# Altium schematic symbol library distribution amp.schlib: 4 symbols
Pins are listed as number, name and electrical type; pins without a type are passive.

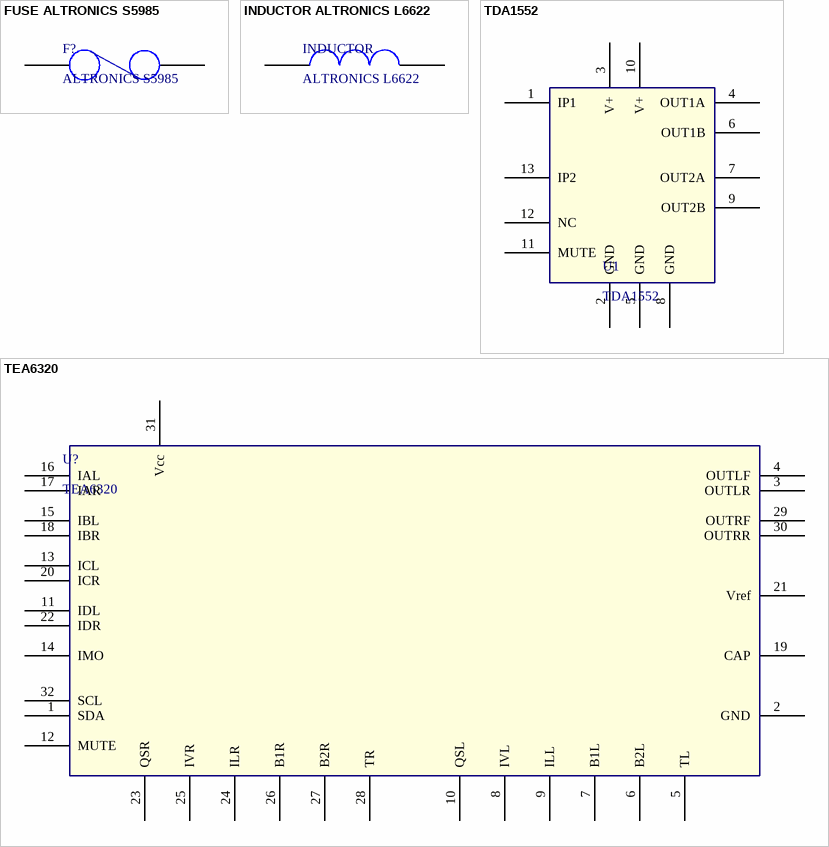
[diagram p0: symbols FUSE ALTRONICS S5985 to TEA6320]

## FUSE ALTRONICS S5985
designator F?, comment ALTRONICS S5985
footprint FUSE ALTRONICS S5985
pins: 1, 2

## INDUCTOR ALTRONICS L6622
designator INDUCTOR, comment ALTRONICS L6622
footprint INDUCTOR 5A (ALTRONICS L6622)
pins: 1, 2

## TDA1552
designator U1
footprint DBS13P
pins: 1 IP1, 2 GND, 3 V+, 4 OUT1A, 5 GND, 6 OUT1B, 7 OUT2A, 8 GND, 9 OUT2B, 10 V+, 11 MUTE, 12 NC, 13 IP2

## TEA6320
designator U?
TEA6320 SOUND FADER CONTROL
footprint DIP32
pins: 1 SDA, 2 GND, 3 OUTLR, 4 OUTLF, 5 TL, 6 B2L, 7 B1L, 8 IVL, 9 ILL, 10 QSL, 11 IDL, 12 MUTE, 13 ICL, 14 IMO, 15 IBL, 16 IAL, 17 IAR, 18 IBR, 19 CAP, 20 ICR, 21 Vref, 22 IDR, 23 QSR, 24 ILR, 25 IVR, 26 B1R, 27 B2R, 28 TR, 29 OUTRF, 30 OUTRR, 31 Vcc, 32 SCL